# EAGLE library part ADA-POWERBOOST-1000C (library busy_cube_lib)
Breakout pins for Adafruit Powerboost 1000C
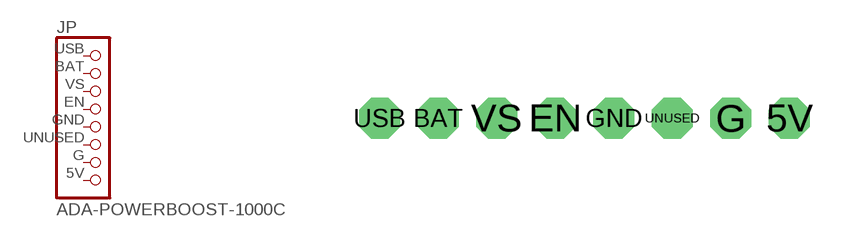
[diagram p1: symbol with the pads of POWERBOOST-1X08; footprint POWERBOOST-1X08]

Designator prefix JP

## ADA-POWERBOOST-1000CPADS-ONLY  [POWERBOOST-1X08]
5V  INT  pas
BAT  3VO  pas
EN  SCL  pas
G  CS  pas
GND  SDA  pas
UNUSED  SDO  pas
USB  VIN  pas
VS  GND  pas

## Footprint POWERBOOST-1X08 (pad centres in mm)
drill 1.016 pad 1.778 octagon: 5V 8.89,0; BAT -6.35,0; EN -1.27,0; G 6.35,0; GND 1.27,0; UNUSED 3.81,0; USB -8.89,0; VS -3.81,0